# Altium integrated library THJP1225AST1.IntLib: 1 symbol
Pins are listed as number, name and electrical type; pins without a type are passive.

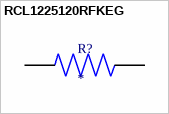
[diagram p0: symbol RCL1225120RFKEG]

## RCL1225120RFKEG
designator R?
RES SMD 120 OHM 2W 2512 WIDE; MP: RCL1225120RFKEG; Package: None; Price: None; Value: *; Availability: Unavailable
footprint RESC3263X80N
pins: 1, 2